# Altium footprint library PCB1.PcbLib: 20 footprints (part 2 of 2)
Each footprint in its own frame and in the unit in brackets; x right, y up, seen from the top. Pads: shape width x height; smd on the part's side, far side on the other; paste and mask are expansions set on the pad; w line width, h text height; cw(c..) or ccw(c..) is an arc to the next point about the centre after c.
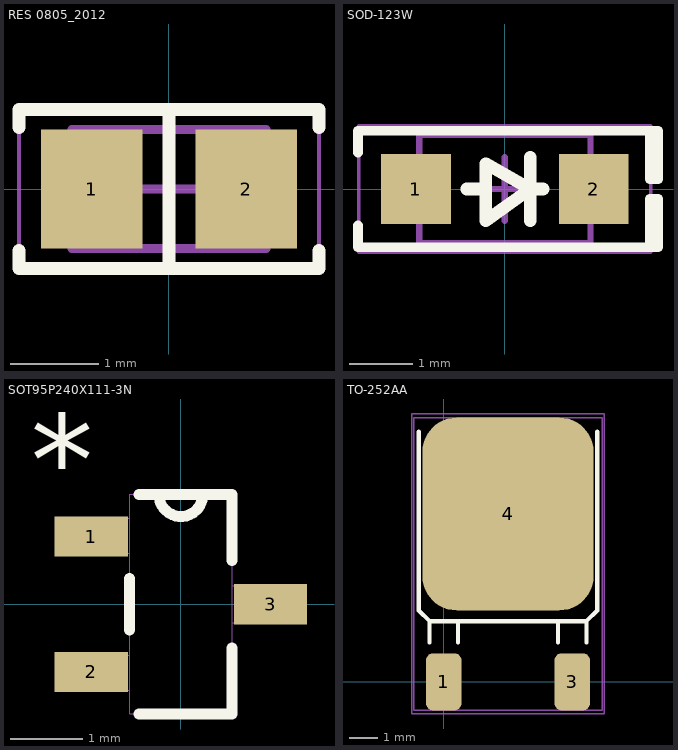
[diagram p1: the footprints below, top view; thin cyan lines are the x and y axes]

## RES 0805_2012 [mm]
pads (2):
  rect 1.15x1.35 smd: 1(-0.875,0) 2(0.875,0)
Top Overlay:
  lines w0.15: -1.7,-0.7 -1.7,-0.9 1.7,-0.9 1.7,-0.7 ; -1.7,0.7 -1.7,0.9 1.7,0.9 1.7,0.7 ; 0,-0.9 0,0.9
Mechanical 13:
  lines w0.1: -1.1,-0.675 1.1,-0.675 1.1,0.675 -1.1,0.675 -1.1,-0.675
Mechanical 15:
  lines w0.05: -1.7,-0.95 1.7,-0.95 1.7,0.95 -1.7,0.95 -1.7,-0.95
  lines w0.1: -0.5,0 0.5,0 ; 0,-0.5 0,0.5
3D body "0805 resistor.STEP": height 0.6, standoff 0, extent -1,-0.625 1,0.625

## SOD-123W [mm]
pads (2):
  rect 1.1x1.1 smd: 1(-1.4,0) 2(1.4,0)
Top Overlay:
  lines w0.15: -2.313,-0.575 -2.313,-0.916 2.286,-0.916 ; -2.313,0.575 -2.313,0.916 2.286,0.916 ; 2.286,-0.916 2.413,-0.916 2.413,-0.154 2.286,-0.154 2.286,-0.916 ; 2.286,0.916 2.286,0.154 2.413,0.154 2.413,0.916 2.286,0.916
  lines w0.2: -0.6,0 -0.3,0 ; 0.4,-0.5 0.4,0.5 ; 0.6,0 0.4,0 ; 0.4,0 -0.3,0.4 -0.3,-0.5 0.4,0
Mechanical 13:
  lines w0.1: -1.35,-0.85 -1.35,0.85 1.35,0.85 1.35,-0.85 -1.35,-0.85
Mechanical 15:
  lines w0.05: -2.3,-1 -2.3,1 2.3,1 2.3,-1 -2.3,-1
  lines w0.1: -0.5,0 0.5,0 ; 0,-0.5 0,0.5
3D body "Nexperia - SOD-123W.step": height 0.95, standoff -0.15, extent -1.75,-0.87 1.75,0.87

## SOT95P240X111-3N [mil]
pads (3):
  rect 40x22 smd: 1(-49,37) 2(-49,-37) 3(49,0)
Top Overlay:
  lines w6: -28,-14 -28,14 ; -23,-60 28,-60 28,-24 ; -23,60 -12,60 ; 28,24 28,60 12,60 ; -12,60 ccw(c0,60) 12,60 ; -12,60 12,60
  text "*" at -82,54 h50
Mechanical 13:
  lines w0: -28,-47 -28,-60 28,-60 28,-10 ; -28,-47 -28,-28 ; -28,-47 -52,-47 -52,-28 -28,-28 ; -28,-28 -28,28 ; -28,28 -28,47 ; -28,28 -52,28 -52,47 -28,47 ; -28,47 -28,60 -12,60 ; -12,60 ccw(c0,60) 12,60 ; -12,60 12,60 ; 12,60 28,60 28,10 ; 28,-10 28,10 ; 28,-10 52,-10 52,10 28,10
  text "*" at -82,54 h50
3D body "step_temp.STEP": height 43.7, standoff 0, extent -57.09,-47.24 57.09,47.24

## TO-252AA [mil]
pads (3):
  rrect40% 50x80 smd: 1(0,0) 3(180,0)
  rrect40% 240x270 smd: 4(90,235)
Top Overlay:
  lines w6: -35,350 -35,100 -20,85 ; -20,55 -20,85 ; 20,55 20,85 ; 160,55 160,85 ; 200,55 200,85 ; 215,350 215,100 200,85 ; -20,85 200,85
Mechanical 13:
  lines w2: -42,-40 -42,370 222,370 222,-40 -42,-40
Mechanical 14:
  lines w2: -45,-45 225,-45 225,375 -45,375 -45,-45
3D body "TO-252.STEP": height 90.56, standoff -4.52, extent -38.73,-31.77 218.75,359.5